# Altium schematic symbol library Bridge SMD Package.SchLib: 1 symbol
Pins are listed as number, name and electrical type; pins without a type are passive.

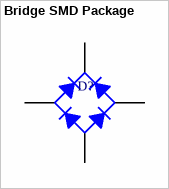
[diagram p0: symbol Bridge SMD Package]

## Bridge SMD Package
designator D?  (value not drawn)
footprint Bridge SMD Package
pins: 1 +, 2 AC, 3 AC, 4 -